# EAGLE library part S8B-PH-* (library jst-pa)
Wire-to-Board 2.0mm pitch side mount connector Source: http://www.jst-mfg.com/product/pdf/jpn/PH.pdf http://www.jst-mfg.com/product/detail.php?series=199
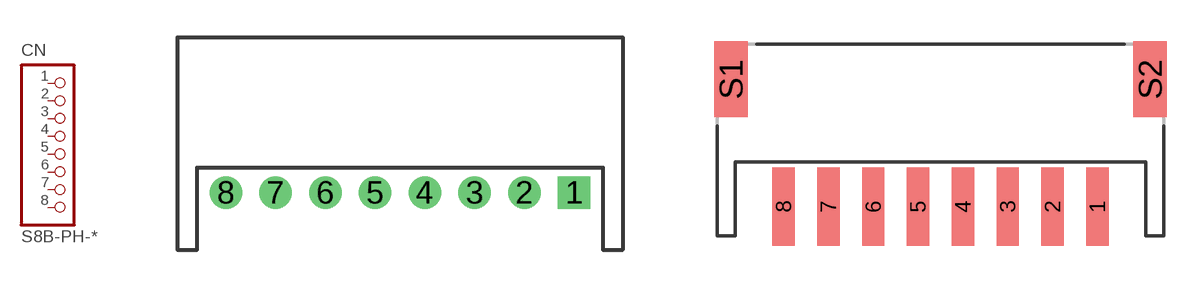
[diagram p13: symbol with the pads of S8B-PH-K-S; footprints S8B-PH-K-S, S8B-PH-SM4-TB]

Designator prefix CN

## S8B-PH-K-S  [S8B-PH-K-S]
1  1  pas
2  2  pas
3  3  pas
4  4  pas
5  5  pas
6  6  pas
7  7  pas
8  8  pas

## S8B-PH-SM4-TB  [S8B-PH-SM4-TB]
Pads as for S8B-PH-K-S

## Footprint S8B-PH-K-S (pad centres in mm)
drill 0.8 square: 1 7,0
drill 0.8: 2 5,0; 3 3,0; 4 1,0; 5 -1,0; 6 -3,0; 7 -5,0; 8 -7,0

## Footprint S8B-PH-SM4-TB (pad centres in mm)
smd 1 x 3.5: 1 7,-1; 2 5,-1; 3 3,-1; 4 1,-1; 5 -1,-1; 6 -3,-1; 7 -5,-1; 8 -7,-1
smd 1.5 x 3.4: S1 -9.35,4.7; S2 9.35,4.7